# Altium integrated library cmv4000.IntLib: 2 symbols
Pins are listed as number, name and electrical type; pins without a type are passive.

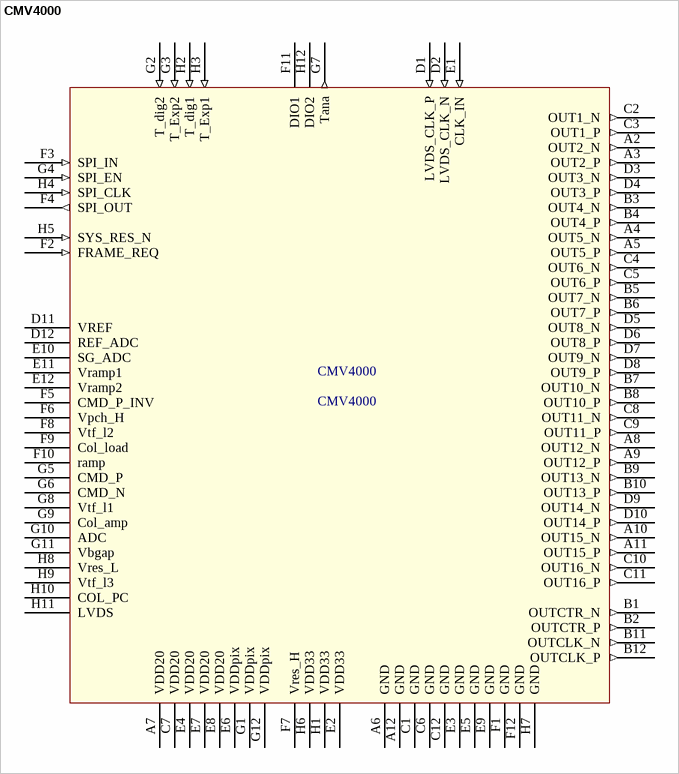
[diagram p0: symbol CMV4000]

## CMV4000
designator CMV4000
footprint PGA940
pins: A2 OUT2_N (out), A3 OUT2_P (out), A4 OUT5_N (out), A5 OUT5_P (out), A6 GND (power), A7 VDD20 (power), A8 OUT12_N (out), A9 OUT12_P (out), A10 OUT15_N (out), A11 OUT15_P (out), A12 GND (power), B1 OUTCTR_N (out), B2 OUTCTR_P (out), B3 OUT4_N (out), B4 OUT4_P (out), B5 OUT7_N (out), B6 OUT7_P (out), B7 OUT10_N (out), B8 OUT10_P (out), B9 OUT13_N (out), B10 OUT13_P (out), B11 OUTCLK_N (out), B12 OUTCLK_P (out), C1 GND (power), C2 OUT1_N (out), C3 OUT1_P (out), C4 OUT6_N (out), C5 OUT6_P (out), C6 GND (power), C7 VDD20 (power), C8 OUT11_N (out), C9 OUT11_P (out), C10 OUT16_N (out), C11 OUT16_P (out), C12 GND (power), D1 LVDS_CLK_P (in), D2 LVDS_CLK_N (in), D3 OUT3_N (out), D4 OUT3_P (out), D5 OUT8_N (out), D6 OUT8_P (out), D7 OUT9_N (out), D8 OUT9_P (out), D9 OUT14_N (out), D10 OUT14_P (out), D11 VREF, D12 REF_ADC, E1 CLK_IN (in), E2 VDD33 (power), E3 GND (power), E4 VDD20 (power), E5 GND (power), E6 VDDpix (power), E7 VDD20 (power), E8 VDD20 (power), E9 GND (power), E10 SG_ADC, E11 Vramp1, E12 Vramp2, F1 GND, F2 FRAME_REQ (in), F3 SPI_IN (in), F4 SPI_OUT (out), F5 CMD_P_INV, F6 Vpch_H, F7 Vres_H, F8 Vtf_l2, F9 Col_load, F10 ramp, F11 DIO1, F12 GND, G1 VDDpix, G2 T_dig2 (in), G3 T_Exp2 (in), G4 SPI_EN (in), G5 CMD_P, G6 CMD_N, G7 Tana (out), G8 Vtf_l1, G9 Col_amp, G10 ADC, G11 Vbgap, G12 VDDpix, H1 VDD33, H2 T_dig1 (in), H3 T_Exp1 (in), H4 SPI_CLK (in), H5 SYS_RES_N (in), H6 VDD33, H7 GND, H8 Vres_L, H9 Vtf_l3, H10 COL_PC, H11 LVDS, H12 DIO2


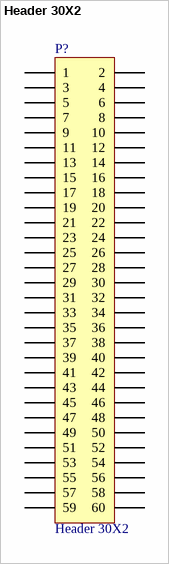
[diagram p1: symbol Header 30X2]

## Header 30X2
designator P?
Header, 40-Pin, Dual row; LatestRevisionDate: 17-Jul-2002; LatestRevisionNote: Re-released for DXP Platform.; Publisher: Altium Limited
footprint HDR2X30 (Connector; Header; 30x2 Position)
signal-integrity model Connector
pins: 1, 2, 3, 4, 5, 6, 7, 8, 9, 10, 11, 12, 13, 14, 15, 16, 17, 18, 19, 20, 21, 22, 23, 24, 25, 26, 27, 28, 29, 30, 31, 32, 33, 34, 35, 36, 37, 38, 39, 40, 41, 42, 43, 44, 45, 46, 47, 48, 49, 50, 51, 52, 53, 54, 55, 56, 57, 58, 59, 60